# Altium schematic symbol library QUTMS_LEDLibrary.SchLib: 6 symbols
Pins are listed as number, name and electrical type; pins without a type are passive.

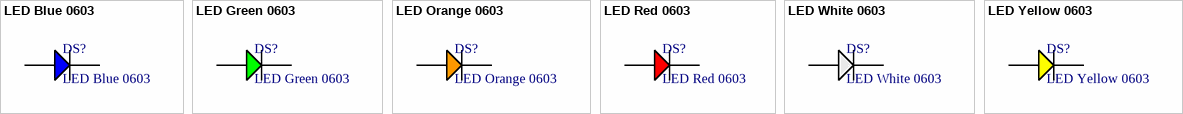
[diagram p0: symbols LED Blue 0603 to LED Yellow 0603]

## LED Blue 0603
designator DS?
footprint LED BLUE 0603
pins: 1 A, 2 C

## LED Green 0603
designator DS?
footprint LED GREEN 0603
pins: 1 A, 2 C

## LED Orange 0603
designator DS?
footprint LED ORANGE 0603
pins: 1 A, 2 C

## LED Red 0603
designator DS?
footprint LED RED 0603
pins: 1 A, 2 C

## LED White 0603
designator DS?
footprint LED WHITE 0603
pins: 1 A, 2 C

## LED Yellow 0603
designator DS?
footprint LED YELLOW 0603
pins: 1 A, 2 C